# Altium schematic symbol library NUCLEO_NANO.SchLib: 1 symbol
Pins are listed as number, name and electrical type; pins without a type are passive.

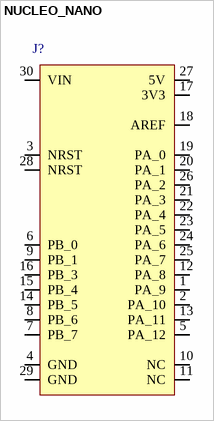
[diagram p0: symbol NUCLEO_NANO]

## NUCLEO_NANO
designator J?  (value not drawn)
pins: 1 PA_9, 2 PA_10, 3 NRST, 4 GND, 5 PA_12, 6 PB_0, 7 PB_7, 8 PB_6, 9 PB_1, 10 NC, 11 NC, 12 PA_8, 13 PA_11, 14 PB_5, 15 PB_4, 16 PB_3, 17 3V3, 18 AREF, 19 PA_0, 20 PA_1, 21 PA_3, 22 PA_4, 23 PA_5, 24 PA_6, 25 PA_7, 26 PA_2, 27 5V, 28 NRST, 29 GND, 30 VIN